# Altium footprint library TP100.PcbLib: 1 footprints
Each footprint in its own frame and in the unit in brackets; x right, y up, seen from the top. Pads: shape width x height; smd on the part's side, far side on the other; paste and mask are expansions set on the pad; w line width, h text height; cw(c..) or ccw(c..) is an arc to the next point about the centre after c.
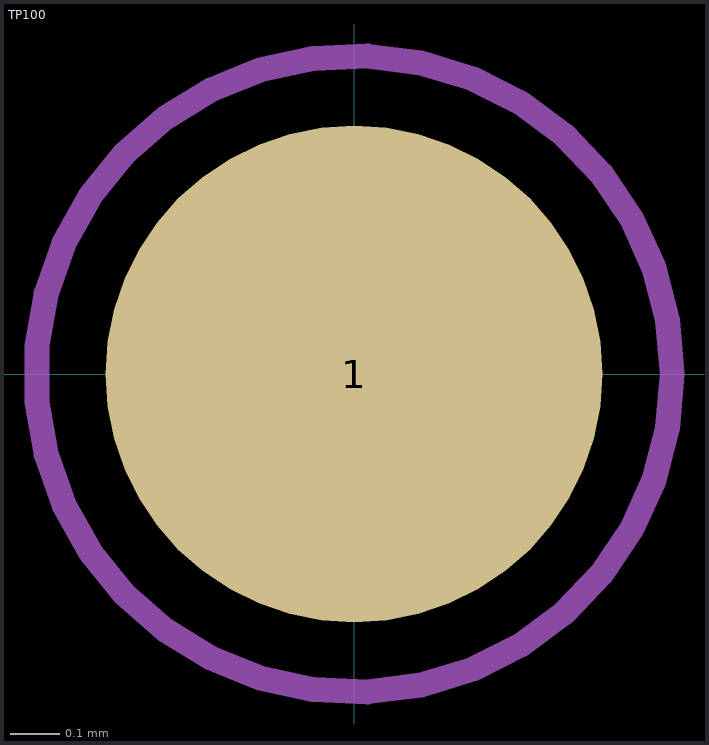
[diagram p0: the footprint, top view; thin cyan lines are the x and y axes]

## TP100 [mm] "TP100"
pads (1):
  round 1 smd paste-2539.97: 1(0,0)
Mechanical 15:
  circle w0.05: c0,0 r0.64
  lines w0.05: -0.4,0 0.4,0 ; 0,-0.4 0,0.4